# Altium schematic symbol library WE-LHMI.SchLib: 193 symbols (part 3 of 4)
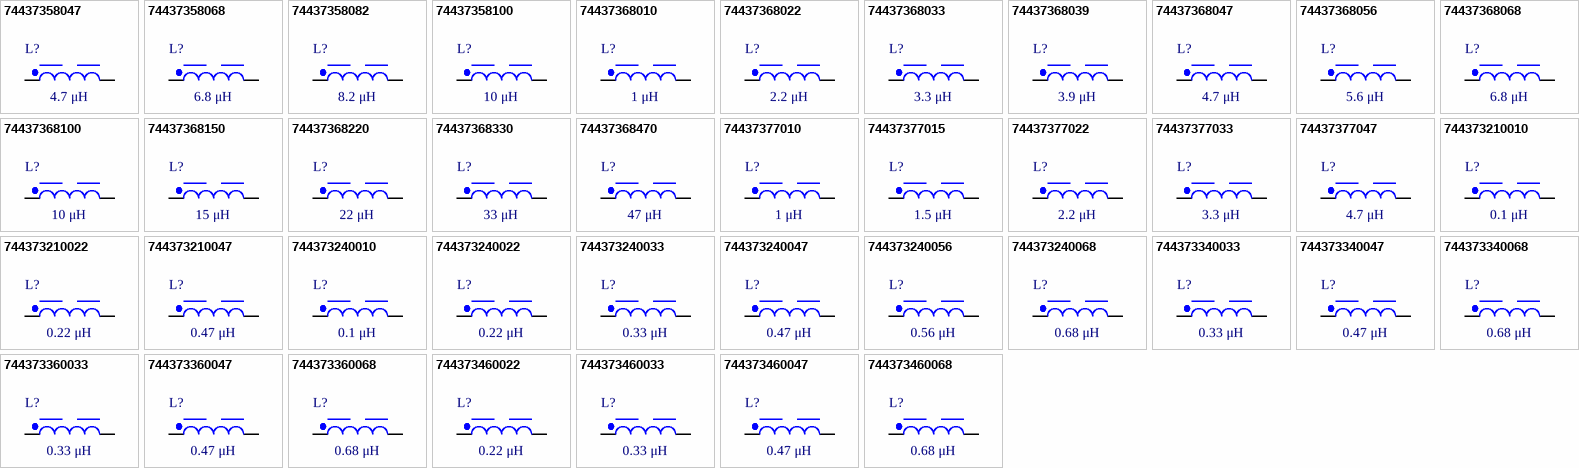
[diagram p6: symbols 74437358047 to 744373460068]

## 744373340033
designator L?, comment 0.33 μH
WE-LHMI SMT Power Inductor, size 5020, 0.33 μH, 12.4 A, 7.3 mΩ; Manufacturer Part Number: 744373340033; Manufacturer: Wurth Elektronik; Case/Size Code: 5020; DC Resistance Max: 7.3 mΩ; Performance Rated Current: 12.4 A; Saturation Current @ 10%: 14.7 A; Saturation Current @ 30%: 29.3 A; Self Resonant Frequency: 100 MHz; Category: Power Inductors; Match Code: WE-LHMI; ComponentLink1Description: Website Link; ComponentLink1URL: https://www.we-online.com/redexpert/article/744373340033?ad; ComponentLink2Description: Datasheet Link; ComponentLink2URL: https://www.we-online.com/redexpert/spec/744373340033?ad; Mount: Surface Mount; Min Operating Temperature: -40 °C; Max Operating Temperature: 125 °C; Packaging: Tape and Reel; Length: 5.7 mm; Width: 5.2 mm; Height: 1.8 mm; Inductance: 0.33 μH
footprint WE-LHMI_5020
simulation model 5020_744373340033_0.33u
pins: 1, 2

## 744373340047
designator L?, comment 0.47 μH
WE-LHMI SMT Power Inductor, size 5020, 0.47 μH, 11.5 A, 8.6 mΩ; Manufacturer Part Number: 744373340047; Manufacturer: Wurth Elektronik; Case/Size Code: 5020; DC Resistance Max: 8.6 mΩ; Performance Rated Current: 11.5 A; Saturation Current @ 10%: 9.6 A; Saturation Current @ 30%: 19.8 A; Self Resonant Frequency: 95 MHz; Category: Power Inductors; Match Code: WE-LHMI; ComponentLink1Description: Website Link; ComponentLink1URL: https://www.we-online.com/redexpert/article/744373340047?ad; ComponentLink2Description: Datasheet Link; ComponentLink2URL: https://www.we-online.com/redexpert/spec/744373340047?ad; Mount: Surface Mount; Min Operating Temperature: -40 °C; Max Operating Temperature: 125 °C; Packaging: Tape and Reel; Length: 5.7 mm; Width: 5.2 mm; Height: 1.8 mm; Inductance: 0.47 μH
footprint WE-LHMI_5020
simulation model 5020_744373340047_0.47u
pins: 1, 2

## 744373340068
designator L?, comment 0.68 μH
WE-LHMI SMT Power Inductor, size 5020, 0.68 μH, 9.4 A, 12.4 mΩ; Manufacturer Part Number: 744373340068; Manufacturer: Wurth Elektronik; Case/Size Code: 5020; DC Resistance Max: 12.4 mΩ; Performance Rated Current: 9.4 A; Saturation Current @ 10%: 9.8 A; Saturation Current @ 30%: 17.8 A; Self Resonant Frequency: 90 MHz; Category: Power Inductors; Match Code: WE-LHMI; ComponentLink1Description: Website Link; ComponentLink1URL: https://www.we-online.com/redexpert/article/744373340068?ad; ComponentLink2Description: Datasheet Link; ComponentLink2URL: https://www.we-online.com/redexpert/spec/744373340068?ad; Mount: Surface Mount; Min Operating Temperature: -40 °C; Max Operating Temperature: 125 °C; Packaging: Tape and Reel; Length: 5.7 mm; Width: 5.2 mm; Height: 1.8 mm; Inductance: 0.68 μH
footprint WE-LHMI_5020
simulation model 5020_744373340068_0.68u
pins: 1, 2

## 744373360033
designator L?, comment 0.33 μH
WE-LHMI SMT Power Inductor, size 5030, 0.33 μH, 15.1 A, 5 mΩ; Manufacturer Part Number: 744373360033; Manufacturer: Wurth Elektronik; Case/Size Code: 5030; DC Resistance Max: 5 mΩ; Performance Rated Current: 15.1 A; Saturation Current @ 10%: 15 A; Saturation Current @ 30%: 29.3 A; Self Resonant Frequency: 120 MHz; Category: Power Inductors; Match Code: WE-LHMI; ComponentLink1Description: Website Link; ComponentLink1URL: https://www.we-online.com/redexpert/article/744373360033?ad; ComponentLink2Description: Datasheet Link; ComponentLink2URL: https://www.we-online.com/redexpert/spec/744373360033?ad; Mount: Surface Mount; Min Operating Temperature: -40 °C; Max Operating Temperature: 125 °C; Packaging: Tape and Reel; Length: 5.7 mm; Width: 5.2 mm; Height: 2.8 mm; Inductance: 0.33 μH
footprint WE-LHMI_5030
simulation model 5030_744373360033_0.33u
pins: 1, 2

## 744373360047
designator L?, comment 0.47 μH
WE-LHMI SMT Power Inductor, size 5030, 0.47 μH, 12.3 A, 7.4 mΩ; Manufacturer Part Number: 744373360047; Manufacturer: Wurth Elektronik; Case/Size Code: 5030; DC Resistance Max: 7.4 mΩ; Performance Rated Current: 12.3 A; Saturation Current @ 10%: 10.8 A; Saturation Current @ 30%: 21.5 A; Self Resonant Frequency: 100 MHz; Category: Power Inductors; Match Code: WE-LHMI; ComponentLink1Description: Website Link; ComponentLink1URL: https://www.we-online.com/redexpert/article/744373360047?ad; ComponentLink2Description: Datasheet Link; ComponentLink2URL: https://www.we-online.com/redexpert/spec/744373360047?ad; Mount: Surface Mount; Min Operating Temperature: -40 °C; Max Operating Temperature: 125 °C; Packaging: Tape and Reel; Length: 5.7 mm; Width: 5.2 mm; Height: 2.8 mm; Inductance: 0.47 μH
footprint WE-LHMI_5030
simulation model 5030_744373360047_0.47u
pins: 1, 2

## 744373360068
designator L?, comment 0.68 μH
WE-LHMI SMT Power Inductor, size 5030, 0.68 μH, 9.8 A, 12 mΩ; Manufacturer Part Number: 744373360068; Manufacturer: Wurth Elektronik; Case/Size Code: 5030; DC Resistance Max: 12 mΩ; Performance Rated Current: 9.8 A; Saturation Current @ 10%: 10.2 A; Saturation Current @ 30%: 19.3 A; Self Resonant Frequency: 90 MHz; Category: Power Inductors; Match Code: WE-LHMI; ComponentLink1Description: Website Link; ComponentLink1URL: https://www.we-online.com/redexpert/article/744373360068?ad; ComponentLink2Description: Datasheet Link; ComponentLink2URL: https://www.we-online.com/redexpert/spec/744373360068?ad; Mount: Surface Mount; Min Operating Temperature: -40 °C; Max Operating Temperature: 125 °C; Packaging: Tape and Reel; Length: 5.7 mm; Width: 5.2 mm; Height: 2.8 mm; Inductance: 0.68 μH
footprint WE-LHMI_5030
simulation model 5030_744373360068_0.68u
pins: 1, 2

## 744373460022
designator L?, comment 0.22 μH
WE-LHMI SMT Power Inductor, size 7030, 0.22 μH, 23 A, 2.8 mΩ; Manufacturer Part Number: 744373460022; Manufacturer: Wurth Elektronik; Case/Size Code: 7030; DC Resistance Max: 2.8 mΩ; Performance Rated Current: 23 A; Saturation Current @ 10%: 29.9 A; Saturation Current @ 30%: 54.3 A; Self Resonant Frequency: 149 MHz; Category: Power Inductors; Match Code: WE-LHMI; ComponentLink1Description: Website Link; ComponentLink1URL: https://www.we-online.com/redexpert/article/744373460022?ad; ComponentLink2Description: Datasheet Link; ComponentLink2URL: https://www.we-online.com/redexpert/spec/744373460022?ad; Mount: Surface Mount; Min Operating Temperature: -40 °C; Max Operating Temperature: 125 °C; Packaging: Tape and Reel; Length: 7.3 mm; Width: 6.6 mm; Height: 2.8 mm; Inductance: 0.22 μH
footprint WE-LHMI_7030
simulation model 7030_744373460022_0.22u
pins: 1, 2

## 744373460033
designator L?, comment 0.33 μH
WE-LHMI SMT Power Inductor, size 7030, 0.33 μH, 17.8 A, 3.9 mΩ; Manufacturer Part Number: 744373460033; Manufacturer: Wurth Elektronik; Case/Size Code: 7030; DC Resistance Max: 3.9 mΩ; Performance Rated Current: 17.8 A; Saturation Current @ 10%: 27.1 A; Saturation Current @ 30%: 47 A; Self Resonant Frequency: 124 MHz; Category: Power Inductors; Match Code: WE-LHMI; ComponentLink1Description: Website Link; ComponentLink1URL: https://www.we-online.com/redexpert/article/744373460033?ad; ComponentLink2Description: Datasheet Link; ComponentLink2URL: https://www.we-online.com/redexpert/spec/744373460033?ad; Mount: Surface Mount; Min Operating Temperature: -40 °C; Max Operating Temperature: 125 °C; Packaging: Tape and Reel; Length: 7.3 mm; Width: 6.6 mm; Height: 2.8 mm; Inductance: 0.33 μH
footprint WE-LHMI_7030
simulation model 7030_744373460033_0.33u
pins: 1, 2

## 744373460047
designator L?, comment 0.47 μH
WE-LHMI SMT Power Inductor, size 7030, 0.47 μH, 16.6 A, 4.2 mΩ; Manufacturer Part Number: 744373460047; Manufacturer: Wurth Elektronik; Case/Size Code: 7030; DC Resistance Max: 4.2 mΩ; Performance Rated Current: 16.6 A; Saturation Current @ 10%: 21.4 A; Saturation Current @ 30%: 37.8 A; Self Resonant Frequency: 91 MHz; Category: Power Inductors; Match Code: WE-LHMI; ComponentLink1Description: Website Link; ComponentLink1URL: https://www.we-online.com/redexpert/article/744373460047?ad; ComponentLink2Description: Datasheet Link; ComponentLink2URL: https://www.we-online.com/redexpert/spec/744373460047?ad; Mount: Surface Mount; Min Operating Temperature: -40 °C; Max Operating Temperature: 125 °C; Packaging: Tape and Reel; Length: 7.3 mm; Width: 6.6 mm; Height: 2.8 mm; Inductance: 0.47 μH
footprint WE-LHMI_7030
simulation model 7030_744373460047_0.47u
pins: 1, 2

## 744373460068
designator L?, comment 0.68 μH
WE-LHMI SMT Power Inductor, size 7030, 0.68 μH, 15.1 A, 5.5 mΩ; Manufacturer Part Number: 744373460068; Manufacturer: Wurth Elektronik; Case/Size Code: 7030; DC Resistance Max: 5.5 mΩ; Performance Rated Current: 15.1 A; Saturation Current @ 10%: 15.9 A; Saturation Current @ 30%: 31.6 A; Self Resonant Frequency: 72 MHz; Category: Power Inductors; Match Code: WE-LHMI; ComponentLink1Description: Website Link; ComponentLink1URL: https://www.we-online.com/redexpert/article/744373460068?ad; ComponentLink2Description: Datasheet Link; ComponentLink2URL: https://www.we-online.com/redexpert/spec/744373460068?ad; Mount: Surface Mount; Min Operating Temperature: -40 °C; Max Operating Temperature: 125 °C; Packaging: Tape and Reel; Length: 7.3 mm; Width: 6.6 mm; Height: 2.8 mm; Inductance: 0.68 μH
footprint WE-LHMI_7030
simulation model 7030_744373460068_0.68u
pins: 1, 2

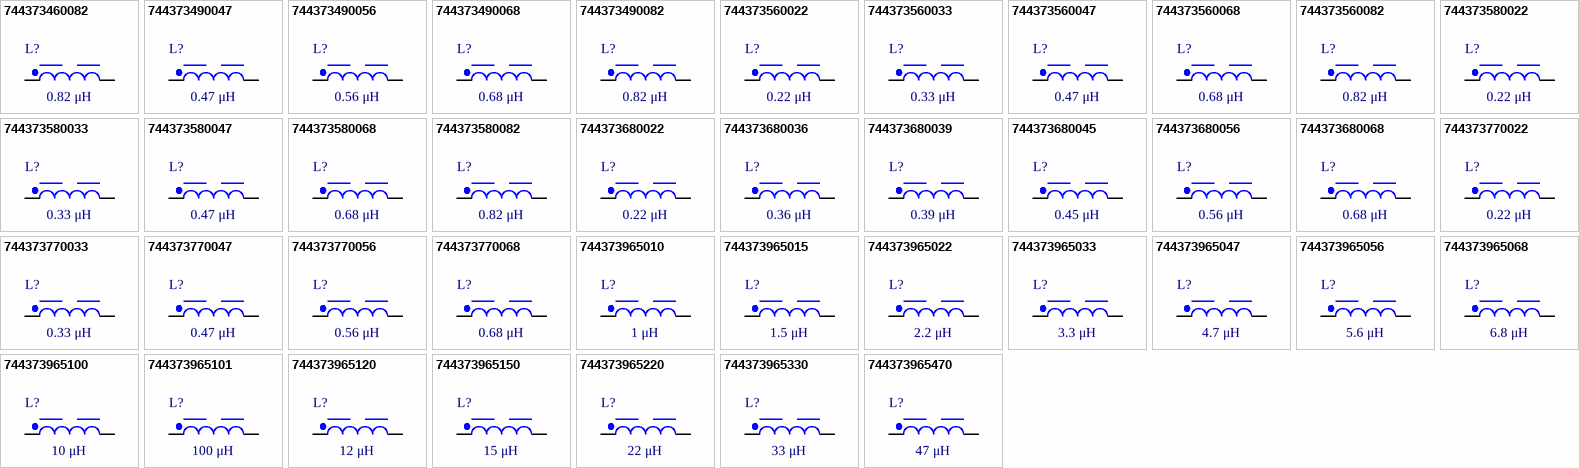
[diagram p3: symbols 744373460082 to 744373965470]

## 744373460082
designator L?, comment 0.82 μH
WE-LHMI SMT Power Inductor, size 7030, 0.82 μH, 12.7 A, 8 mΩ; Manufacturer Part Number: 744373460082; Manufacturer: Wurth Elektronik; Case/Size Code: 7030; DC Resistance Max: 8 mΩ; Performance Rated Current: 12.7 A; Saturation Current @ 10%: 15 A; Saturation Current @ 30%: 31.9 A; Self Resonant Frequency: 60 MHz; Category: Power Inductors; Match Code: WE-LHMI; ComponentLink1Description: Website Link; ComponentLink1URL: https://www.we-online.com/redexpert/article/744373460082?ad; ComponentLink2Description: Datasheet Link; ComponentLink2URL: https://www.we-online.com/redexpert/spec/744373460082?ad; Mount: Surface Mount; Min Operating Temperature: -40 °C; Max Operating Temperature: 125 °C; Packaging: Tape and Reel; Length: 7.3 mm; Width: 6.6 mm; Height: 2.8 mm; Inductance: 0.82 μH
footprint WE-LHMI_7030
simulation model 7030_744373460082_0.82u
pins: 1, 2

## 744373490047
designator L?, comment 0.47 μH
WE-LHMI SMT Power Inductor, size 7050, 0.47 μH, 17.8 A, 3.9 mΩ; Manufacturer Part Number: 744373490047; Manufacturer: Wurth Elektronik; Case/Size Code: 7050; DC Resistance Max: 3.9 mΩ; Performance Rated Current: 17.8 A; Saturation Current @ 10%: 20 A; Saturation Current @ 30%: 41.6 A; Self Resonant Frequency: 96 MHz; Category: Power Inductors; Match Code: WE-LHMI; ComponentLink1Description: Website Link; ComponentLink1URL: https://www.we-online.com/redexpert/article/744373490047?ad; ComponentLink2Description: Datasheet Link; ComponentLink2URL: https://www.we-online.com/redexpert/spec/744373490047?ad; Mount: Surface Mount; Min Operating Temperature: -40 °C; Max Operating Temperature: 125 °C; Packaging: Tape and Reel; Length: 7.3 mm; Width: 6.6 mm; Height: 4.8 mm; Inductance: 0.47 μH
footprint WE-LHMI_7050
simulation model 7050_744373490047_0.47u
pins: 1, 2

## 744373490056
designator L?, comment 0.56 μH
WE-LHMI SMT Power Inductor, size 7050, 0.56 μH, 17.6 A, 4.2 mΩ; Manufacturer Part Number: 744373490056; Manufacturer: Wurth Elektronik; Case/Size Code: 7050; DC Resistance Max: 4.2 mΩ; Performance Rated Current: 17.6 A; Saturation Current @ 10%: 19.9 A; Saturation Current @ 30%: 36.4 A; Self Resonant Frequency: 85 MHz; Category: Power Inductors; Match Code: WE-LHMI; ComponentLink1Description: Website Link; ComponentLink1URL: https://www.we-online.com/redexpert/article/744373490056?ad; ComponentLink2Description: Datasheet Link; ComponentLink2URL: https://www.we-online.com/redexpert/spec/744373490056?ad; Mount: Surface Mount; Min Operating Temperature: -40 °C; Max Operating Temperature: 125 °C; Packaging: Tape and Reel; Length: 7.3 mm; Width: 6.6 mm; Height: 4.8 mm; Inductance: 0.56 μH
footprint WE-LHMI_7050
simulation model 7050_744373490056_0.56u
pins: 1, 2

## 744373490068
designator L?, comment 0.68 μH
WE-LHMI SMT Power Inductor, size 7050, 0.68 μH, 16.7 A, 4.5 mΩ; Manufacturer Part Number: 744373490068; Manufacturer: Wurth Elektronik; Case/Size Code: 7050; DC Resistance Max: 4.5 mΩ; Performance Rated Current: 16.7 A; Saturation Current @ 10%: 18.8 A; Saturation Current @ 30%: 33.8 A; Self Resonant Frequency: 73 MHz; Category: Power Inductors; Match Code: WE-LHMI; ComponentLink1Description: Website Link; ComponentLink1URL: https://www.we-online.com/redexpert/article/744373490068?ad; ComponentLink2Description: Datasheet Link; ComponentLink2URL: https://www.we-online.com/redexpert/spec/744373490068?ad; Mount: Surface Mount; Min Operating Temperature: -40 °C; Max Operating Temperature: 125 °C; Packaging: Tape and Reel; Length: 7.3 mm; Width: 6.6 mm; Height: 4.8 mm; Inductance: 0.68 μH
footprint WE-LHMI_7050
simulation model 7050_744373490068_0.68u
pins: 1, 2

## 744373490082
designator L?, comment 0.82 μH
WE-LHMI SMT Power Inductor, size 7050, 0.82 μH, 15.5 A, 4.9 mΩ; Manufacturer Part Number: 744373490082; Manufacturer: Wurth Elektronik; Case/Size Code: 7050; DC Resistance Max: 4.9 mΩ; Performance Rated Current: 15.5 A; Saturation Current @ 10%: 17.4 A; Saturation Current @ 30%: 31.6 A; Self Resonant Frequency: 70 MHz; Category: Power Inductors; Match Code: WE-LHMI; ComponentLink1Description: Website Link; ComponentLink1URL: https://www.we-online.com/redexpert/article/744373490082?ad; ComponentLink2Description: Datasheet Link; ComponentLink2URL: https://www.we-online.com/redexpert/spec/744373490082?ad; Mount: Surface Mount; Min Operating Temperature: -40 °C; Max Operating Temperature: 125 °C; Packaging: Tape and Reel; Length: 7.3 mm; Width: 6.6 mm; Height: 4.8 mm; Inductance: 0.82 μH
footprint WE-LHMI_7050
simulation model 7050_744373490082_0.82u
pins: 1, 2

## 744373560022
designator L?, comment 0.22 μH
WE-LHMI SMT Power Inductor, size 8030, 0.22 μH, 29.5 A, 1.61 mΩ; Manufacturer Part Number: 744373560022; Manufacturer: Wurth Elektronik; Case/Size Code: 8030; DC Resistance Max: 1.61 mΩ; Performance Rated Current: 29.5 A; Saturation Current @ 10%: 32.1 A; Saturation Current @ 30%: 63.4 A; Self Resonant Frequency: 110 MHz; Category: Power Inductors; Match Code: WE-LHMI; ComponentLink1Description: Website Link; ComponentLink1URL: https://www.we-online.com/redexpert/article/744373560022?ad; ComponentLink2Description: Datasheet Link; ComponentLink2URL: https://www.we-online.com/redexpert/spec/744373560022?ad; Mount: Surface Mount; Min Operating Temperature: -40 °C; Max Operating Temperature: 125 °C; Packaging: Tape and Reel; Length: 9.7 mm; Width: 8.5 mm; Height: 3 mm; Inductance: 0.22 μH
footprint WE-LHMI_8030
simulation model 8030_744373560022_0.22u
pins: 1, 2

## 744373560033
designator L?, comment 0.33 μH
WE-LHMI SMT Power Inductor, size 8030, 0.33 μH, 24.8 A, 2.57 mΩ; Manufacturer Part Number: 744373560033; Manufacturer: Wurth Elektronik; Case/Size Code: 8030; DC Resistance Max: 2.57 mΩ; Performance Rated Current: 24.8 A; Saturation Current @ 10%: 26.2 A; Saturation Current @ 30%: 51.9 A; Self Resonant Frequency: 95 MHz; Category: Power Inductors; Match Code: WE-LHMI; ComponentLink1Description: Website Link; ComponentLink1URL: https://www.we-online.com/redexpert/article/744373560033?ad; ComponentLink2Description: Datasheet Link; ComponentLink2URL: https://www.we-online.com/redexpert/spec/744373560033?ad; Mount: Surface Mount; Min Operating Temperature: -40 °C; Max Operating Temperature: 125 °C; Packaging: Tape and Reel; Length: 9.7 mm; Width: 8.5 mm; Height: 3 mm; Inductance: 0.33 μH
footprint WE-LHMI_8030
simulation model 8030_744373560033_0.33u
pins: 1, 2

## 744373560047
designator L?, comment 0.47 μH
WE-LHMI SMT Power Inductor, size 8030, 0.47 μH, 23.2 A, 3.33 mΩ; Manufacturer Part Number: 744373560047; Manufacturer: Wurth Elektronik; Case/Size Code: 8030; DC Resistance Max: 3.33 mΩ; Performance Rated Current: 23.2 A; Saturation Current @ 10%: 22 A; Saturation Current @ 30%: 44.7 A; Self Resonant Frequency: 72 MHz; Category: Power Inductors; Match Code: WE-LHMI; ComponentLink1Description: Website Link; ComponentLink1URL: https://www.we-online.com/redexpert/article/744373560047?ad; ComponentLink2Description: Datasheet Link; ComponentLink2URL: https://www.we-online.com/redexpert/spec/744373560047?ad; Mount: Surface Mount; Min Operating Temperature: -40 °C; Max Operating Temperature: 125 °C; Packaging: Tape and Reel; Length: 9.7 mm; Width: 8.5 mm; Height: 3 mm; Inductance: 0.47 μH
footprint WE-LHMI_8030
simulation model 8030_744373560047_0.47u
pins: 1, 2

## 744373560068
designator L?, comment 0.68 μH
WE-LHMI SMT Power Inductor, size 8030, 0.68 μH, 18.5 A, 3.99 mΩ; Manufacturer Part Number: 744373560068; Manufacturer: Wurth Elektronik; Case/Size Code: 8030; DC Resistance Max: 3.99 mΩ; Performance Rated Current: 18.5 A; Saturation Current @ 10%: 21 A; Saturation Current @ 30%: 43 A; Self Resonant Frequency: 53 MHz; Category: Power Inductors; Match Code: WE-LHMI; ComponentLink1Description: Website Link; ComponentLink1URL: https://www.we-online.com/redexpert/article/744373560068?ad; ComponentLink2Description: Datasheet Link; ComponentLink2URL: https://www.we-online.com/redexpert/spec/744373560068?ad; Mount: Surface Mount; Min Operating Temperature: -40 °C; Max Operating Temperature: 125 °C; Packaging: Tape and Reel; Length: 9.7 mm; Width: 8.5 mm; Height: 3 mm; Inductance: 0.68 μH
footprint WE-LHMI_8030
simulation model 8030_744373560068_0.68u
pins: 1, 2

## 744373560082
designator L?, comment 0.82 μH
WE-LHMI SMT Power Inductor, size 8030, 0.82 μH, 17.3 A, 4.87 mΩ; Manufacturer Part Number: 744373560082; Manufacturer: Wurth Elektronik; Case/Size Code: 8030; DC Resistance Max: 4.87 mΩ; Performance Rated Current: 17.3 A; Saturation Current @ 10%: 19.3 A; Saturation Current @ 30%: 40.9 A; Self Resonant Frequency: 51 MHz; Category: Power Inductors; Match Code: WE-LHMI; ComponentLink1Description: Website Link; ComponentLink1URL: https://www.we-online.com/redexpert/article/744373560082?ad; ComponentLink2Description: Datasheet Link; ComponentLink2URL: https://www.we-online.com/redexpert/spec/744373560082?ad; Mount: Surface Mount; Min Operating Temperature: -40 °C; Max Operating Temperature: 125 °C; Packaging: Tape and Reel; Length: 9.7 mm; Width: 8.5 mm; Height: 3 mm; Inductance: 0.82 μH
footprint WE-LHMI_8030
simulation model 8030_744373560082_0.82u
pins: 1, 2

## 744373580022
designator L?, comment 0.22 μH
WE-LHMI SMT Power Inductor, size 8040, 0.22 μH, 38.5 A, 1.35 mΩ; Manufacturer Part Number: 744373580022; Manufacturer: Wurth Elektronik; Case/Size Code: 8040; DC Resistance Max: 1.35 mΩ; Performance Rated Current: 38.5 A; Saturation Current @ 10%: 38.3 A; Saturation Current @ 30%: 80.4 A; Self Resonant Frequency: 145 MHz; Category: Power Inductors; Match Code: WE-LHMI; ComponentLink1Description: Website Link; ComponentLink1URL: https://www.we-online.com/redexpert/article/744373580022?ad; ComponentLink2Description: Datasheet Link; ComponentLink2URL: https://www.we-online.com/redexpert/spec/744373580022?ad; Mount: Surface Mount; Min Operating Temperature: -40 °C; Max Operating Temperature: 125 °C; Packaging: Tape and Reel; Length: 9.7 mm; Width: 8.5 mm; Height: 4 mm; Inductance: 0.22 μH
footprint WE-LHMI_8040
simulation model 8040_744373580022_0.22u
pins: 1, 2

## 744373580033
designator L?, comment 0.33 μH
WE-LHMI SMT Power Inductor, size 8040, 0.33 μH, 29.7 A, 2.15 mΩ; Manufacturer Part Number: 744373580033; Manufacturer: Wurth Elektronik; Case/Size Code: 8040; DC Resistance Max: 2.15 mΩ; Performance Rated Current: 29.7 A; Saturation Current @ 10%: 31.4 A; Saturation Current @ 30%: 67.2 A; Self Resonant Frequency: 96 MHz; Category: Power Inductors; Match Code: WE-LHMI; ComponentLink1Description: Website Link; ComponentLink1URL: https://www.we-online.com/redexpert/article/744373580033?ad; ComponentLink2Description: Datasheet Link; ComponentLink2URL: https://www.we-online.com/redexpert/spec/744373580033?ad; Mount: Surface Mount; Min Operating Temperature: -40 °C; Max Operating Temperature: 125 °C; Packaging: Tape and Reel; Length: 9.7 mm; Width: 8.5 mm; Height: 4 mm; Inductance: 0.33 μH
footprint WE-LHMI_8040
simulation model 8040_744373580033_0.33u
pins: 1, 2

## 744373580047
designator L?, comment 0.47 μH
WE-LHMI SMT Power Inductor, size 8040, 0.47 μH, 27.6 A, 2.38 mΩ; Manufacturer Part Number: 744373580047; Manufacturer: Wurth Elektronik; Case/Size Code: 8040; DC Resistance Max: 2.38 mΩ; Performance Rated Current: 27.6 A; Saturation Current @ 10%: 27.1 A; Saturation Current @ 30%: 56.8 A; Self Resonant Frequency: 82 MHz; Category: Power Inductors; Match Code: WE-LHMI; ComponentLink1Description: Website Link; ComponentLink1URL: https://www.we-online.com/redexpert/article/744373580047?ad; ComponentLink2Description: Datasheet Link; ComponentLink2URL: https://www.we-online.com/redexpert/spec/744373580047?ad; Mount: Surface Mount; Min Operating Temperature: -40 °C; Max Operating Temperature: 125 °C; Packaging: Tape and Reel; Length: 9.7 mm; Width: 8.5 mm; Height: 4 mm; Inductance: 0.47 μH
footprint WE-LHMI_8040
simulation model 8040_744373580047_0.47u
pins: 1, 2

## 744373580068
designator L?, comment 0.68 μH
WE-LHMI SMT Power Inductor, size 8040, 0.68 μH, 21.5 A, 3.22 mΩ; Manufacturer Part Number: 744373580068; Manufacturer: Wurth Elektronik; Case/Size Code: 8040; DC Resistance Max: 3.22 mΩ; Performance Rated Current: 21.5 A; Saturation Current @ 10%: 17.5 A; Saturation Current @ 30%: 37.8 A; Self Resonant Frequency: 45 MHz; Category: Power Inductors; Match Code: WE-LHMI; ComponentLink1Description: Website Link; ComponentLink1URL: https://www.we-online.com/redexpert/article/744373580068?ad; ComponentLink2Description: Datasheet Link; ComponentLink2URL: https://www.we-online.com/redexpert/spec/744373580068?ad; Mount: Surface Mount; Min Operating Temperature: -40 °C; Max Operating Temperature: 125 °C; Packaging: Tape and Reel; Length: 9.7 mm; Width: 8.5 mm; Height: 4 mm; Inductance: 0.68 μH
footprint WE-LHMI_8040
simulation model 8040_744373580068_0.68u
pins: 1, 2

## 744373580082
designator L?, comment 0.82 μH
WE-LHMI SMT Power Inductor, size 8040, 0.82 μH, 20.7 A, 3.88 mΩ; Manufacturer Part Number: 744373580082; Manufacturer: Wurth Elektronik; Case/Size Code: 8040; DC Resistance Max: 3.88 mΩ; Performance Rated Current: 20.7 A; Saturation Current @ 10%: 19.7 A; Saturation Current @ 30%: 41.6 A; Self Resonant Frequency: 51 MHz; Category: Power Inductors; Match Code: WE-LHMI; ComponentLink1Description: Website Link; ComponentLink1URL: https://www.we-online.com/redexpert/article/744373580082?ad; ComponentLink2Description: Datasheet Link; ComponentLink2URL: https://www.we-online.com/redexpert/spec/744373580082?ad; Mount: Surface Mount; Min Operating Temperature: -40 °C; Max Operating Temperature: 125 °C; Packaging: Tape and Reel; Length: 9.7 mm; Width: 8.5 mm; Height: 4 mm; Inductance: 0.82 μH
footprint WE-LHMI_8040
simulation model 8040_744373580082_0.82u
pins: 1, 2

## 744373680022
designator L?, comment 0.22 μH
WE-LHMI SMT Power Inductor, size 1040, 0.22 μH, 41.4 A, 1 mΩ; Manufacturer Part Number: 744373680022; Manufacturer: Wurth Elektronik; Case/Size Code: 1040; DC Resistance Max: 1 mΩ; Performance Rated Current: 41.4 A; Saturation Current @ 10%: 46 A; Saturation Current @ 30%: 94.2 A; Self Resonant Frequency: 153 MHz; Category: Power Inductors; Match Code: WE-LHMI; ComponentLink1Description: Website Link; ComponentLink1URL: https://www.we-online.com/redexpert/article/744373680022?ad; ComponentLink2Description: Datasheet Link; ComponentLink2URL: https://www.we-online.com/redexpert/spec/744373680022?ad; Mount: Surface Mount; Min Operating Temperature: -40 °C; Max Operating Temperature: 125 °C; Packaging: Tape and Reel; Length: 11 mm; Width: 10 mm; Height: 3.8 mm; Inductance: 0.22 μH
footprint WE-LHMI_1040
simulation model 1040_744373680022_0.22u
pins: 1, 2

## 744373680036
designator L?, comment 0.36 μH
WE-LHMI SMT Power Inductor, size 1040, 0.36 μH, 36.2 A, 1.2 mΩ; Manufacturer Part Number: 744373680036; Manufacturer: Wurth Elektronik; Case/Size Code: 1040; DC Resistance Max: 1.2 mΩ; Performance Rated Current: 36.2 A; Saturation Current @ 10%: 44.5 A; Saturation Current @ 30%: 79.4 A; Self Resonant Frequency: 104 MHz; Category: Power Inductors; Match Code: WE-LHMI; ComponentLink1Description: Website Link; ComponentLink1URL: https://www.we-online.com/redexpert/article/744373680036?ad; ComponentLink2Description: Datasheet Link; ComponentLink2URL: https://www.we-online.com/redexpert/spec/744373680036?ad; Mount: Surface Mount; Min Operating Temperature: -40 °C; Max Operating Temperature: 125 °C; Packaging: Tape and Reel; Length: 11 mm; Width: 10 mm; Height: 3.8 mm; Inductance: 0.36 μH
footprint WE-LHMI_1040
simulation model 1040_744373680036_0.36u
pins: 1, 2

## 744373680039
designator L?, comment 0.39 μH
WE-LHMI SMT Power Inductor, size 1040, 0.39 μH, 35.3 A, 1.3 mΩ; Manufacturer Part Number: 744373680039; Manufacturer: Wurth Elektronik; Case/Size Code: 1040; DC Resistance Max: 1.3 mΩ; Performance Rated Current: 35.3 A; Saturation Current @ 10%: 43 A; Saturation Current @ 30%: 77.5 A; Self Resonant Frequency: 101 MHz; Category: Power Inductors; Match Code: WE-LHMI; ComponentLink1Description: Website Link; ComponentLink1URL: https://www.we-online.com/redexpert/article/744373680039?ad; ComponentLink2Description: Datasheet Link; ComponentLink2URL: https://www.we-online.com/redexpert/spec/744373680039?ad; Mount: Surface Mount; Min Operating Temperature: -40 °C; Max Operating Temperature: 125 °C; Packaging: Tape and Reel; Length: 11 mm; Width: 10 mm; Height: 3.8 mm; Inductance: 0.39 μH
footprint WE-LHMI_1040
simulation model 1040_744373680039_0.39u
pins: 1, 2

## 744373680045
designator L?, comment 0.45 μH
WE-LHMI SMT Power Inductor, size 1040, 0.45 μH, 32.6 A, 1.5 mΩ; Manufacturer Part Number: 744373680045; Manufacturer: Wurth Elektronik; Case/Size Code: 1040; DC Resistance Max: 1.5 mΩ; Performance Rated Current: 32.6 A; Saturation Current @ 10%: 34.9 A; Saturation Current @ 30%: 64.5 A; Self Resonant Frequency: 82 MHz; Category: Power Inductors; Match Code: WE-LHMI; ComponentLink1Description: Website Link; ComponentLink1URL: https://www.we-online.com/redexpert/article/744373680045?ad; ComponentLink2Description: Datasheet Link; ComponentLink2URL: https://www.we-online.com/redexpert/spec/744373680045?ad; Mount: Surface Mount; Min Operating Temperature: -40 °C; Max Operating Temperature: 125 °C; Packaging: Tape and Reel; Length: 11 mm; Width: 10 mm; Height: 3.8 mm; Inductance: 0.45 μH
footprint WE-LHMI_1040
simulation model 1040_744373680045_0.45u
pins: 1, 2

## 744373680056
designator L?, comment 0.56 μH
WE-LHMI SMT Power Inductor, size 1040, 0.56 μH, 29.3 A, 1.8 mΩ; Manufacturer Part Number: 744373680056; Manufacturer: Wurth Elektronik; Case/Size Code: 1040; DC Resistance Max: 1.8 mΩ; Performance Rated Current: 29.3 A; Saturation Current @ 10%: 31.7 A; Saturation Current @ 30%: 60.9 A; Self Resonant Frequency: 70 MHz; Category: Power Inductors; Match Code: WE-LHMI; ComponentLink1Description: Website Link; ComponentLink1URL: https://www.we-online.com/redexpert/article/744373680056?ad; ComponentLink2Description: Datasheet Link; ComponentLink2URL: https://www.we-online.com/redexpert/spec/744373680056?ad; Mount: Surface Mount; Min Operating Temperature: -40 °C; Max Operating Temperature: 125 °C; Packaging: Tape and Reel; Length: 11 mm; Width: 10 mm; Height: 3.8 mm; Inductance: 0.56 μH
footprint WE-LHMI_1040
simulation model 1040_744373680056_0.56u
pins: 1, 2

## 744373680068
designator L?, comment 0.68 μH
WE-LHMI SMT Power Inductor, size 1040, 0.68 μH, 23.8 A, 2.7 mΩ; Manufacturer Part Number: 744373680068; Manufacturer: Wurth Elektronik; Case/Size Code: 1040; DC Resistance Max: 2.7 mΩ; Performance Rated Current: 23.8 A; Saturation Current @ 10%: 30.6 A; Saturation Current @ 30%: 58.3 A; Self Resonant Frequency: 53 MHz; Category: Power Inductors; Match Code: WE-LHMI; ComponentLink1Description: Website Link; ComponentLink1URL: https://www.we-online.com/redexpert/article/744373680068?ad; ComponentLink2Description: Datasheet Link; ComponentLink2URL: https://www.we-online.com/redexpert/spec/744373680068?ad; Mount: Surface Mount; Min Operating Temperature: -40 °C; Max Operating Temperature: 125 °C; Packaging: Tape and Reel; Length: 11 mm; Width: 10 mm; Height: 3.8 mm; Inductance: 0.68 μH
footprint WE-LHMI_1040
simulation model 1040_744373680068_0.68u
pins: 1, 2

## 744373770022
designator L?, comment 0.22 μH
WE-LHMI SMT Power Inductor, size 1335, 0.22 μH, 45 A, 0.9 mΩ; Manufacturer Part Number: 744373770022; Manufacturer: Wurth Elektronik; Case/Size Code: 1335; DC Resistance Max: 0.9 mΩ; Performance Rated Current: 45 A; Saturation Current @ 10%: 23.9 A; Saturation Current @ 30%: 57.4 A; Self Resonant Frequency: 130 MHz; Category: Power Inductors; Match Code: WE-LHMI; ComponentLink1Description: Website Link; ComponentLink1URL: https://www.we-online.com/redexpert/article/744373770022?ad; ComponentLink2Description: Datasheet Link; ComponentLink2URL: https://www.we-online.com/redexpert/spec/744373770022?ad; Mount: Surface Mount; Min Operating Temperature: -40 °C; Max Operating Temperature: 125 °C; Packaging: Tape and Reel; Length: 13.5 mm; Width: 12.6 mm; Height: 3.3 mm; Inductance: 0.22 μH
footprint WE-LHMI_1335
simulation model 1335_744373770022_0.22u
pins: 1, 2

## 744373770033
designator L?, comment 0.33 μH
WE-LHMI SMT Power Inductor, size 1335, 0.33 μH, 41.6 A, 1.05 mΩ; Manufacturer Part Number: 744373770033; Manufacturer: Wurth Elektronik; Case/Size Code: 1335; DC Resistance Max: 1.05 mΩ; Performance Rated Current: 41.6 A; Saturation Current @ 10%: 23.9 A; Saturation Current @ 30%: 65.5 A; Self Resonant Frequency: 84 MHz; Category: Power Inductors; Match Code: WE-LHMI; ComponentLink1Description: Website Link; ComponentLink1URL: https://www.we-online.com/redexpert/article/744373770033?ad; ComponentLink2Description: Datasheet Link; ComponentLink2URL: https://www.we-online.com/redexpert/spec/744373770033?ad; Mount: Surface Mount; Min Operating Temperature: -40 °C; Max Operating Temperature: 125 °C; Packaging: Tape and Reel; Length: 13.5 mm; Width: 12.6 mm; Height: 3.3 mm; Inductance: 0.33 μH
footprint WE-LHMI_1335
simulation model 1335_744373770033_0.33u
pins: 1, 2

## 744373770047
designator L?, comment 0.47 μH
WE-LHMI SMT Power Inductor, size 1335, 0.47 μH, 33.8 A, 1.6 mΩ; Manufacturer Part Number: 744373770047; Manufacturer: Wurth Elektronik; Case/Size Code: 1335; DC Resistance Max: 1.6 mΩ; Performance Rated Current: 33.8 A; Saturation Current @ 10%: 17.2 A; Saturation Current @ 30%: 40.2 A; Self Resonant Frequency: 77 MHz; Category: Power Inductors; Match Code: WE-LHMI; ComponentLink1Description: Website Link; ComponentLink1URL: https://www.we-online.com/redexpert/article/744373770047?ad; ComponentLink2Description: Datasheet Link; ComponentLink2URL: https://www.we-online.com/redexpert/spec/744373770047?ad; Mount: Surface Mount; Min Operating Temperature: -40 °C; Max Operating Temperature: 125 °C; Packaging: Tape and Reel; Length: 13.5 mm; Width: 12.6 mm; Height: 3.3 mm; Inductance: 0.47 μH
footprint WE-LHMI_1335
simulation model 1335_744373770047_0.47u
pins: 1, 2

## 744373770056
designator L?, comment 0.56 μH
WE-LHMI SMT Power Inductor, size 1335, 0.56 μH, 32.9 A, 1.7 mΩ; Manufacturer Part Number: 744373770056; Manufacturer: Wurth Elektronik; Case/Size Code: 1335; DC Resistance Max: 1.7 mΩ; Performance Rated Current: 32.9 A; Saturation Current @ 10%: 16.8 A; Saturation Current @ 30%: 42.8 A; Self Resonant Frequency: 59 MHz; Category: Power Inductors; Match Code: WE-LHMI; ComponentLink1Description: Website Link; ComponentLink1URL: https://www.we-online.com/redexpert/article/744373770056?ad; ComponentLink2Description: Datasheet Link; ComponentLink2URL: https://www.we-online.com/redexpert/spec/744373770056?ad; Mount: Surface Mount; Min Operating Temperature: -40 °C; Max Operating Temperature: 125 °C; Packaging: Tape and Reel; Length: 13.5 mm; Width: 12.6 mm; Height: 3.3 mm; Inductance: 0.56 μH
footprint WE-LHMI_1335
simulation model 1335_744373770056_0.56u
pins: 1, 2

## 744373770068
designator L?, comment 0.68 μH
WE-LHMI SMT Power Inductor, size 1335, 0.68 μH, 28.8 A, 2.2 mΩ; Manufacturer Part Number: 744373770068; Manufacturer: Wurth Elektronik; Case/Size Code: 1335; DC Resistance Max: 2.2 mΩ; Performance Rated Current: 28.8 A; Saturation Current @ 10%: 15.7 A; Saturation Current @ 30%: 42.5 A; Self Resonant Frequency: 51 MHz; Category: Power Inductors; Match Code: WE-LHMI; ComponentLink1Description: Website Link; ComponentLink1URL: https://www.we-online.com/redexpert/article/744373770068?ad; ComponentLink2Description: Datasheet Link; ComponentLink2URL: https://www.we-online.com/redexpert/spec/744373770068?ad; Mount: Surface Mount; Min Operating Temperature: -40 °C; Max Operating Temperature: 125 °C; Packaging: Tape and Reel; Length: 13.5 mm; Width: 12.6 mm; Height: 3.3 mm; Inductance: 0.68 μH
footprint WE-LHMI_1335
simulation model 1335_744373770068_0.68u
pins: 1, 2

## 744373965010
designator L?, comment 1 μH
WE-LHMI SMT Power Inductor, size 1365, 1 μH, 28.2 A, 2.3 mΩ; Manufacturer Part Number: 744373965010; Manufacturer: Wurth Elektronik; Case/Size Code: 1365; DC Resistance Max: 2.3 mΩ; Performance Rated Current: 28.2 A; Saturation Current @ 10%: 32.7 A; Saturation Current @ 30%: 59.9 A; Self Resonant Frequency: 43.5 MHz; Category: Power Inductors; Match Code: WE-LHMI; ComponentLink1Description: Website Link; ComponentLink1URL: https://www.we-online.com/redexpert/article/744373965010?ad; ComponentLink2Description: Datasheet Link; ComponentLink2URL: https://www.we-online.com/redexpert/spec/744373965010?ad; Mount: Surface Mount; Min Operating Temperature: -40 °C; Max Operating Temperature: 125 °C; Packaging: Tape and Reel; Length: 13.65 mm; Width: 12.5 mm; Height: 6.2 mm; Inductance: 1 μH
footprint WE-LHMI_1365
simulation model 1365_744373965010_1u
pins: 1, 2

## 744373965015
designator L?, comment 1.5 μH
WE-LHMI SMT Power Inductor, size 1365, 1.5 μH, 25.7 A, 3 mΩ; Manufacturer Part Number: 744373965015; Manufacturer: Wurth Elektronik; Case/Size Code: 1365; DC Resistance Max: 3 mΩ; Performance Rated Current: 25.7 A; Saturation Current @ 10%: 28.9 A; Saturation Current @ 30%: 55.2 A; Self Resonant Frequency: 29.5 MHz; Category: Power Inductors; Match Code: WE-LHMI; ComponentLink1Description: Website Link; ComponentLink1URL: https://www.we-online.com/redexpert/article/744373965015?ad; ComponentLink2Description: Datasheet Link; ComponentLink2URL: https://www.we-online.com/redexpert/spec/744373965015?ad; Mount: Surface Mount; Min Operating Temperature: -40 °C; Max Operating Temperature: 125 °C; Packaging: Tape and Reel; Length: 13.65 mm; Width: 12.5 mm; Height: 6.2 mm; Inductance: 1.5 μH
footprint WE-LHMI_1365
simulation model 1365_744373965015_1.5u
pins: 1, 2

## 744373965022
designator L?, comment 2.2 μH
WE-LHMI SMT Power Inductor, size 1365, 2.2 μH, 21.6 A, 4.2 mΩ; Manufacturer Part Number: 744373965022; Manufacturer: Wurth Elektronik; Case/Size Code: 1365; DC Resistance Max: 4.2 mΩ; Performance Rated Current: 21.6 A; Saturation Current @ 10%: 20.7 A; Saturation Current @ 30%: 41.1 A; Self Resonant Frequency: 21.6 MHz; Category: Power Inductors; Match Code: WE-LHMI; ComponentLink1Description: Website Link; ComponentLink1URL: https://www.we-online.com/redexpert/article/744373965022?ad; ComponentLink2Description: Datasheet Link; ComponentLink2URL: https://www.we-online.com/redexpert/spec/744373965022?ad; Mount: Surface Mount; Min Operating Temperature: -40 °C; Max Operating Temperature: 125 °C; Packaging: Tape and Reel; Length: 13.65 mm; Width: 12.5 mm; Height: 6.2 mm; Inductance: 2.2 μH
footprint WE-LHMI_1365
simulation model 1365_744373965022_2.2u
pins: 1, 2

## 744373965033
designator L?, comment 3.3 μH
WE-LHMI SMT Power Inductor, size 1365, 3.3 μH, 16.2 A, 6.8 mΩ; Manufacturer Part Number: 744373965033; Manufacturer: Wurth Elektronik; Case/Size Code: 1365; DC Resistance Max: 6.8 mΩ; Performance Rated Current: 16.2 A; Saturation Current @ 10%: 20.3 A; Saturation Current @ 30%: 41.5 A; Self Resonant Frequency: 20.3 MHz; Category: Power Inductors; Match Code: WE-LHMI; ComponentLink1Description: Website Link; ComponentLink1URL: https://www.we-online.com/redexpert/article/744373965033?ad; ComponentLink2Description: Datasheet Link; ComponentLink2URL: https://www.we-online.com/redexpert/spec/744373965033?ad; Mount: Surface Mount; Min Operating Temperature: -40 °C; Max Operating Temperature: 125 °C; Packaging: Tape and Reel; Length: 13.65 mm; Width: 12.5 mm; Height: 6.2 mm; Inductance: 3.3 μH
footprint WE-LHMI_1365
simulation model 1365_744373965033_3.3u
pins: 1, 2

## 744373965047
designator L?, comment 4.7 μH
WE-LHMI SMT Power Inductor, size 1365, 4.7 μH, 15.1 A, 8.4 mΩ; Manufacturer Part Number: 744373965047; Manufacturer: Wurth Elektronik; Case/Size Code: 1365; DC Resistance Max: 8.4 mΩ; Performance Rated Current: 15.1 A; Saturation Current @ 10%: 18.4 A; Saturation Current @ 30%: 35.8 A; Self Resonant Frequency: 13.9 MHz; Category: Power Inductors; Match Code: WE-LHMI; ComponentLink1Description: Website Link; ComponentLink1URL: https://www.we-online.com/redexpert/article/744373965047?ad; ComponentLink2Description: Datasheet Link; ComponentLink2URL: https://www.we-online.com/redexpert/spec/744373965047?ad; Mount: Surface Mount; Min Operating Temperature: -40 °C; Max Operating Temperature: 125 °C; Packaging: Tape and Reel; Length: 13.65 mm; Width: 12.5 mm; Height: 6.2 mm; Inductance: 4.7 μH
footprint WE-LHMI_1365
simulation model 1365_744373965047_4.7u
pins: 1, 2

## 744373965056
designator L?, comment 5.6 μH
WE-LHMI SMT Power Inductor, size 1365, 5.6 μH, 13.3 A, 10 mΩ; Manufacturer Part Number: 744373965056; Manufacturer: Wurth Elektronik; Case/Size Code: 1365; DC Resistance Max: 10 mΩ; Performance Rated Current: 13.3 A; Saturation Current @ 10%: 18.3 A; Saturation Current @ 30%: 33 A; Self Resonant Frequency: 13.7 MHz; Category: Power Inductors; Match Code: WE-LHMI; ComponentLink1Description: Website Link; ComponentLink1URL: https://www.we-online.com/redexpert/article/744373965056?ad; ComponentLink2Description: Datasheet Link; ComponentLink2URL: https://www.we-online.com/redexpert/spec/744373965056?ad; Mount: Surface Mount; Min Operating Temperature: -40 °C; Max Operating Temperature: 125 °C; Packaging: Tape and Reel; Length: 13.65 mm; Width: 12.5 mm; Height: 6.2 mm; Inductance: 5.6 μH
footprint WE-LHMI_1365
simulation model 1365_744373965056_5.6u
pins: 1, 2

## 744373965068
designator L?, comment 6.8 μH
WE-LHMI SMT Power Inductor, size 1365, 6.8 μH, 12.7 A, 11.6 mΩ; Manufacturer Part Number: 744373965068; Manufacturer: Wurth Elektronik; Case/Size Code: 1365; DC Resistance Max: 11.6 mΩ; Performance Rated Current: 12.7 A; Saturation Current @ 10%: 15.8 A; Saturation Current @ 30%: 28.9 A; Self Resonant Frequency: 11.6 MHz; Category: Power Inductors; Match Code: WE-LHMI; ComponentLink1Description: Website Link; ComponentLink1URL: https://www.we-online.com/redexpert/article/744373965068?ad; ComponentLink2Description: Datasheet Link; ComponentLink2URL: https://www.we-online.com/redexpert/spec/744373965068?ad; Mount: Surface Mount; Min Operating Temperature: -40 °C; Max Operating Temperature: 125 °C; Packaging: Tape and Reel; Length: 13.65 mm; Width: 12.5 mm; Height: 6.2 mm; Inductance: 6.8 μH
footprint WE-LHMI_1365
simulation model 1365_744373965068_6.8u
pins: 1, 2

## 744373965100
designator L?, comment 10 μH
WE-LHMI SMT Power Inductor, size 1365, 10 μH, 11.8 A, 16.5 mΩ; Manufacturer Part Number: 744373965100; Manufacturer: Wurth Elektronik; Case/Size Code: 1365; DC Resistance Max: 16.5 mΩ; Performance Rated Current: 11.8 A; Saturation Current @ 10%: 13.2 A; Saturation Current @ 30%: 23.9 A; Self Resonant Frequency: 8 MHz; Category: Power Inductors; Match Code: WE-LHMI; ComponentLink1Description: Website Link; ComponentLink1URL: https://www.we-online.com/redexpert/article/744373965100?ad; ComponentLink2Description: Datasheet Link; ComponentLink2URL: https://www.we-online.com/redexpert/spec/744373965100?ad; Mount: Surface Mount; Min Operating Temperature: -40 °C; Max Operating Temperature: 125 °C; Packaging: Tape and Reel; Length: 13.65 mm; Width: 12.5 mm; Height: 6.2 mm; Inductance: 10 μH
footprint WE-LHMI_1365
simulation model 1365_744373965100_10u
pins: 1, 2

## 744373965101
designator L?, comment 100 μH
WE-LHMI SMT Power Inductor, size 1365, 100 μH, 3.2 A, 165 mΩ; Manufacturer Part Number: 744373965101; Manufacturer: Wurth Elektronik; Case/Size Code: 1365; DC Resistance Max: 165 mΩ; Performance Rated Current: 3.2 A; Saturation Current @ 10%: 3.45 A; Saturation Current @ 30%: 6.8 A; Self Resonant Frequency: 2.4 MHz; Category: Power Inductors; Match Code: WE-LHMI; ComponentLink1Description: Website Link; ComponentLink1URL: https://www.we-online.com/redexpert/article/744373965101?ad; ComponentLink2Description: Datasheet Link; ComponentLink2URL: https://www.we-online.com/redexpert/spec/744373965101?ad; Mount: Surface Mount; Min Operating Temperature: -40 °C; Max Operating Temperature: 125 °C; Packaging: Tape and Reel; Length: 13.65 mm; Width: 12.5 mm; Height: 6.2 mm; Inductance: 100 μH
footprint WE-LHMI_1365
simulation model 1365_744373965101_100u
pins: 1, 2

## 744373965120
designator L?, comment 12 μH
WE-LHMI SMT Power Inductor, size 1365, 12 μH, 9.1 A, 20 mΩ; Manufacturer Part Number: 744373965120; Manufacturer: Wurth Elektronik; Case/Size Code: 1365; DC Resistance Max: 20 mΩ; Performance Rated Current: 9.1 A; Saturation Current @ 10%: 12.9 A; Saturation Current @ 30%: 26.6 A; Self Resonant Frequency: 7.6 MHz; Category: Power Inductors; Match Code: WE-LHMI; ComponentLink1Description: Website Link; ComponentLink1URL: https://www.we-online.com/redexpert/article/744373965120?ad; ComponentLink2Description: Datasheet Link; ComponentLink2URL: https://www.we-online.com/redexpert/spec/744373965120?ad; Mount: Surface Mount; Min Operating Temperature: -40 °C; Max Operating Temperature: 125 °C; Packaging: Tape and Reel; Length: 13.65 mm; Width: 12.5 mm; Height: 6.2 mm; Inductance: 12 μH
footprint WE-LHMI_1365
simulation model 1365_744373965120_12u
pins: 1, 2

## 744373965150
designator L?, comment 15 μH
WE-LHMI SMT Power Inductor, size 1365, 15 μH, 7.7 A, 28 mΩ; Manufacturer Part Number: 744373965150; Manufacturer: Wurth Elektronik; Case/Size Code: 1365; DC Resistance Max: 28 mΩ; Performance Rated Current: 7.7 A; Saturation Current @ 10%: 10.2 A; Saturation Current @ 30%: 18.5 A; Self Resonant Frequency: 7.5 MHz; Category: Power Inductors; Match Code: WE-LHMI; ComponentLink1Description: Website Link; ComponentLink1URL: https://www.we-online.com/redexpert/article/744373965150?ad; ComponentLink2Description: Datasheet Link; ComponentLink2URL: https://www.we-online.com/redexpert/spec/744373965150?ad; Mount: Surface Mount; Min Operating Temperature: -40 °C; Max Operating Temperature: 125 °C; Packaging: Tape and Reel; Length: 13.65 mm; Width: 12.5 mm; Height: 6.2 mm; Inductance: 15 μH
footprint WE-LHMI_1365
simulation model 1365_744373965150_15u
pins: 1, 2

## 744373965220
designator L?, comment 22 μH
WE-LHMI SMT Power Inductor, size 1365, 22 μH, 6.5 A, 37 mΩ; Manufacturer Part Number: 744373965220; Manufacturer: Wurth Elektronik; Case/Size Code: 1365; DC Resistance Max: 37 mΩ; Performance Rated Current: 6.5 A; Saturation Current @ 10%: 6.7 A; Saturation Current @ 30%: 13.9 A; Self Resonant Frequency: 5.4 MHz; Category: Power Inductors; Match Code: WE-LHMI; ComponentLink1Description: Website Link; ComponentLink1URL: https://www.we-online.com/redexpert/article/744373965220?ad; ComponentLink2Description: Datasheet Link; ComponentLink2URL: https://www.we-online.com/redexpert/spec/744373965220?ad; Mount: Surface Mount; Min Operating Temperature: -40 °C; Max Operating Temperature: 125 °C; Packaging: Tape and Reel; Length: 13.65 mm; Width: 12.5 mm; Height: 6.2 mm; Inductance: 22 μH
footprint WE-LHMI_1365
simulation model 1365_744373965220_22u
pins: 1, 2

## 744373965330
designator L?, comment 33 μH
WE-LHMI SMT Power Inductor, size 1365, 33 μH, 5.45 A, 58 mΩ; Manufacturer Part Number: 744373965330; Manufacturer: Wurth Elektronik; Case/Size Code: 1365; DC Resistance Max: 58 mΩ; Performance Rated Current: 5.45 A; Saturation Current @ 10%: 6.3 A; Saturation Current @ 30%: 13.2 A; Self Resonant Frequency: 4.4 MHz; Category: Power Inductors; Match Code: WE-LHMI; ComponentLink1Description: Website Link; ComponentLink1URL: https://www.we-online.com/redexpert/article/744373965330?ad; ComponentLink2Description: Datasheet Link; ComponentLink2URL: https://www.we-online.com/redexpert/spec/744373965330?ad; Mount: Surface Mount; Min Operating Temperature: -40 °C; Max Operating Temperature: 125 °C; Packaging: Tape and Reel; Length: 13.65 mm; Width: 12.5 mm; Height: 6.2 mm; Inductance: 33 μH
footprint WE-LHMI_1365
simulation model 1365_744373965330_33u
pins: 1, 2

## 744373965470
designator L?, comment 47 μH
WE-LHMI SMT Power Inductor, size 1365, 47 μH, 4.4 A, 90 mΩ; Manufacturer Part Number: 744373965470; Manufacturer: Wurth Elektronik; Case/Size Code: 1365; DC Resistance Max: 90 mΩ; Performance Rated Current: 4.4 A; Saturation Current @ 10%: 6.15 A; Saturation Current @ 30%: 13.1 A; Self Resonant Frequency: 3.8 MHz; Category: Power Inductors; Match Code: WE-LHMI; ComponentLink1Description: Website Link; ComponentLink1URL: https://www.we-online.com/redexpert/article/744373965470?ad; ComponentLink2Description: Datasheet Link; ComponentLink2URL: https://www.we-online.com/redexpert/spec/744373965470?ad; Mount: Surface Mount; Min Operating Temperature: -40 °C; Max Operating Temperature: 125 °C; Packaging: Tape and Reel; Length: 13.65 mm; Width: 12.5 mm; Height: 6.2 mm; Inductance: 47 μH
footprint WE-LHMI_1365
simulation model 1365_744373965470_47u
pins: 1, 2

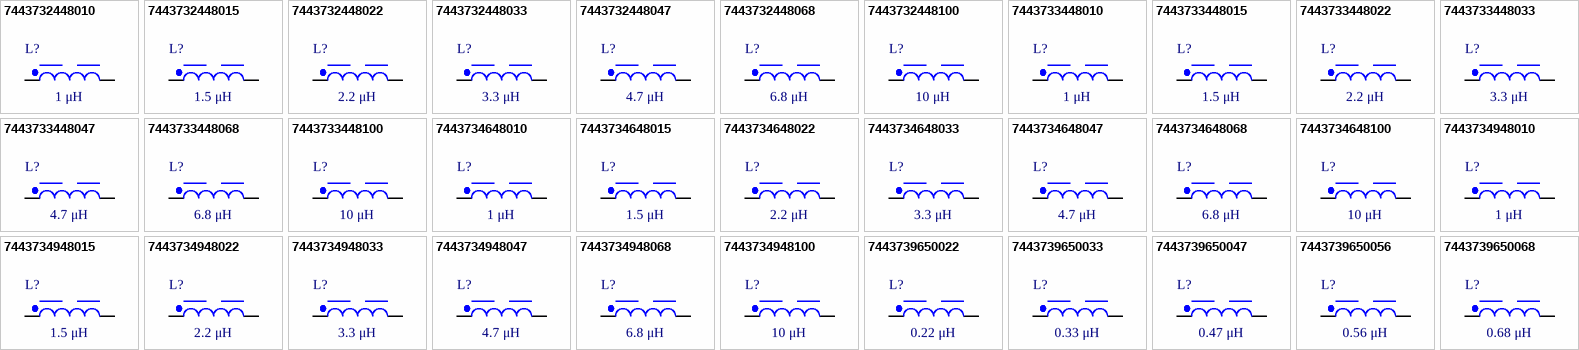
[diagram p4: symbols 7443732448010 to 7443739650068]

## 7443732448010
designator L?, comment 1 μH
WE-LHMI SMT Power Inductor, size 4020 HT, 1 μH, 6.7 A, 27 mΩ; Manufacturer Part Number: 7443732448010; Manufacturer: Wurth Elektronik; Case/Size Code: 4020 HT; DC Resistance Max: 27 mΩ; Performance Rated Current: 6.7 A; Saturation Current @ 10%: 4 A; Saturation Current @ 30%: 8.5 A; Self Resonant Frequency: 66 MHz; Category: Power Inductors; Match Code: WE-LHMI; ComponentLink1Description: Website Link; ComponentLink1URL: https://www.we-online.com/redexpert/article/7443732448010?ad; ComponentLink2Description: Datasheet Link; ComponentLink2URL: https://www.we-online.com/redexpert/spec/7443732448010?ad; Mount: Surface Mount; Min Operating Temperature: -55 °C; Max Operating Temperature: 150 °C; Packaging: Tape and Reel; Length: 4.45 mm; Width: 4.06 mm; Height: 1.8 mm; Inductance: 1 μH
footprint WE-LHMI_4020 HT
simulation model 4020HT_7443732448010_1u
pins: 1, 2

## 7443732448015
designator L?, comment 1.5 μH
WE-LHMI SMT Power Inductor, size 4020 HT, 1.5 μH, 6 A, 46 mΩ; Manufacturer Part Number: 7443732448015; Manufacturer: Wurth Elektronik; Case/Size Code: 4020 HT; DC Resistance Max: 46 mΩ; Performance Rated Current: 6 A; Saturation Current @ 10%: 3.4 A; Saturation Current @ 30%: 7 A; Self Resonant Frequency: 55 MHz; Category: Power Inductors; Match Code: WE-LHMI; ComponentLink1Description: Website Link; ComponentLink1URL: https://www.we-online.com/redexpert/article/7443732448015?ad; ComponentLink2Description: Datasheet Link; ComponentLink2URL: https://www.we-online.com/redexpert/spec/7443732448015?ad; Mount: Surface Mount; Min Operating Temperature: -55 °C; Max Operating Temperature: 150 °C; Packaging: Tape and Reel; Length: 4.45 mm; Width: 4.06 mm; Height: 1.8 mm; Inductance: 1.5 μH
footprint WE-LHMI_4020 HT
simulation model 4020HT_7443732448015_1.5u
pins: 1, 2

## 7443732448022
designator L?, comment 2.2 μH
WE-LHMI SMT Power Inductor, size 4020 HT, 2.2 μH, 5.1 A, 61 mΩ; Manufacturer Part Number: 7443732448022; Manufacturer: Wurth Elektronik; Case/Size Code: 4020 HT; DC Resistance Max: 61 mΩ; Performance Rated Current: 5.1 A; Saturation Current @ 10%: 2.9 A; Saturation Current @ 30%: 6 A; Self Resonant Frequency: 44 MHz; Category: Power Inductors; Match Code: WE-LHMI; ComponentLink1Description: Website Link; ComponentLink1URL: https://www.we-online.com/redexpert/article/7443732448022?ad; ComponentLink2Description: Datasheet Link; ComponentLink2URL: https://www.we-online.com/redexpert/spec/7443732448022?ad; Mount: Surface Mount; Min Operating Temperature: -55 °C; Max Operating Temperature: 150 °C; Packaging: Tape and Reel; Length: 4.45 mm; Width: 4.06 mm; Height: 1.8 mm; Inductance: 2.2 μH
footprint WE-LHMI_4020 HT
simulation model 4020HT_7443732448022_2.2u
pins: 1, 2

## 7443732448033
designator L?, comment 3.3 μH
WE-LHMI SMT Power Inductor, size 4020 HT, 3.3 μH, 4.3 A, 71 mΩ; Manufacturer Part Number: 7443732448033; Manufacturer: Wurth Elektronik; Case/Size Code: 4020 HT; DC Resistance Max: 71 mΩ; Performance Rated Current: 4.3 A; Saturation Current @ 10%: 2.5 A; Saturation Current @ 30%: 5.6 A; Self Resonant Frequency: 33 MHz; Category: Power Inductors; Match Code: WE-LHMI; ComponentLink1Description: Website Link; ComponentLink1URL: https://www.we-online.com/redexpert/article/7443732448033?ad; ComponentLink2Description: Datasheet Link; ComponentLink2URL: https://www.we-online.com/redexpert/spec/7443732448033?ad; Mount: Surface Mount; Min Operating Temperature: -55 °C; Max Operating Temperature: 150 °C; Packaging: Tape and Reel; Length: 4.45 mm; Width: 4.06 mm; Height: 1.8 mm; Inductance: 3.3 μH
footprint WE-LHMI_4020 HT
simulation model 4020HT_7443732448033_3.3u
pins: 1, 2